# Altium footprint library FUSE_SMD.PcbLib: 6 footprints
Each footprint in its own frame and in the unit in brackets; x right, y up, seen from the top. Pads: shape width x height; smd on the part's side, far side on the other; paste and mask are expansions set on the pad; w line width, h text height; cw(c..) or ccw(c..) is an arc to the next point about the centre after c.
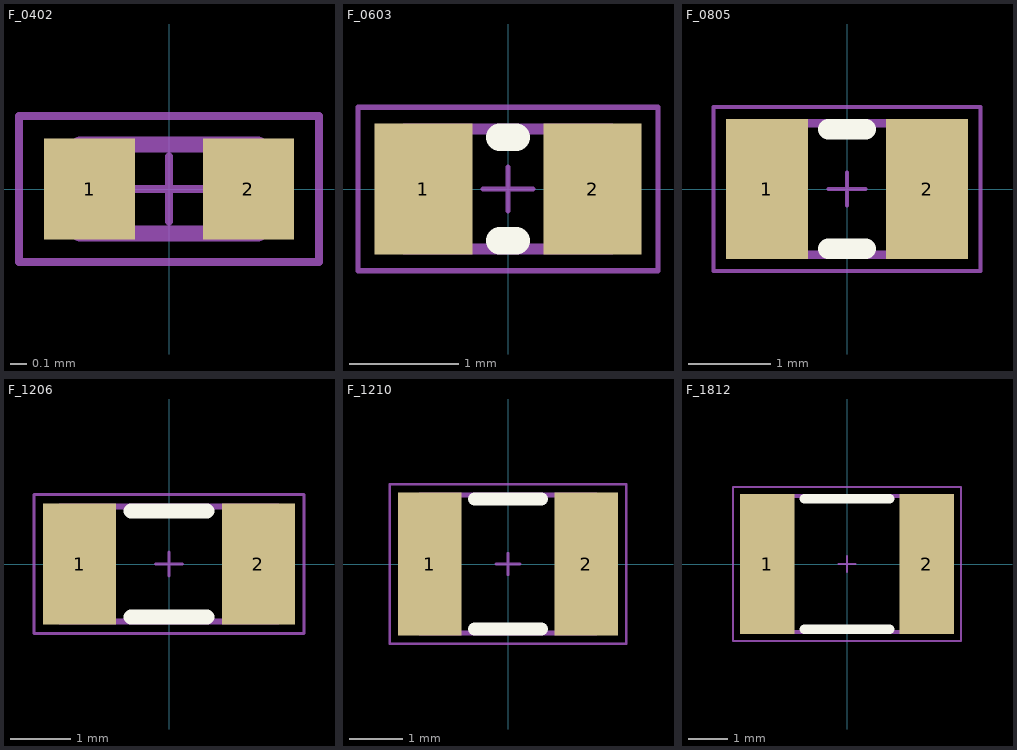
[diagram p0: the footprints below, top view; thin cyan lines are the x and y axes]

## F_0402 [mm] "Fuse SMD 0402."
height 0.9
pads (2):
  rect 0.56x0.62 smd: 1(-0.49,0) 2(0.49,0)
Mechanical 13:
  lines w0.1: -0.55,-0.275 0.55,-0.275 0.55,0.275 -0.55,0.275 -0.55,-0.275
Mechanical 15:
  lines w0.05: -0.225,0 0.225,0 ; 0,-0.2 0,0.2 ; -0.925,-0.45 -0.925,0.45 0.925,0.45 0.925,-0.45 -0.925,-0.45
3D body "F0402.STEP": height 0.33, standoff 0, extent -0.5,-0.25 0.5,0.25

## F_0603 [mm] "Fuse SMD 0603."
height 0.9
pads (2):
  rect 0.9x1.2 smd: 1(-0.775,0) 2(0.775,0)
Top Overlay:
  lines w0.25: -0.075,-0.475 0.075,-0.475 ; -0.075,0.475 0.075,0.475
Mechanical 13:
  lines w0.1: -0.95,-0.55 -0.95,0.55 0.95,0.55 0.95,-0.55 -0.95,-0.55
Mechanical 15:
  lines w0.05: -0.225,0 0.225,0 ; 0,-0.2 0,0.2 ; -1.375,-0.75 -1.375,0.75 1.375,0.75 1.375,-0.75 -1.375,-0.75
3D body "F0603.step": height 0.45, standoff 0, extent -0.9,-0.52 0.9,0.52

## F_0805 [mm] "Fuse SMD 0805."
height 0.9
pads (2):
  rect 1x1.7 smd: 1(-0.975,0) 2(0.975,0)
Top Overlay:
  lines w0.25: -0.225,-0.725 0.225,-0.725 ; -0.225,0.725 0.225,0.725
Mechanical 13:
  lines w0.1: -1.15,-0.8 1.15,-0.8 1.15,0.8 -1.15,0.8 -1.15,-0.8
Mechanical 15:
  lines w0.05: -0.225,0 0.225,0 ; 0,-0.2 0,0.2 ; -1.625,-1 1.625,-1 1.625,1 -1.625,1 -1.625,-1
3D body "F0805.step": height 0.5, standoff 0, extent -1.1,-0.77 1.1,0.77

## F_1206 [mm] "Fuse SMD 1206."
height 0.9
pads (2):
  rect 1.2x2 smd: 1(-1.475,0) 2(1.475,0)
Top Overlay:
  lines w0.25: -0.625,-0.875 0.625,-0.875 ; -0.625,0.875 0.625,0.875
Mechanical 13:
  lines w0.1: -1.8,-0.95 -1.8,0.95 1.8,0.95 1.8,-0.95 -1.8,-0.95
Mechanical 15:
  lines w0.05: -0.225,0 0.225,0 ; 0,-0.2 0,0.2 ; -2.225,-1.15 2.225,-1.15 2.225,1.15 -2.225,1.15 -2.225,-1.15
3D body "F1206.step": height 0.5, standoff 0, extent -1.75,-0.92 1.75,0.92

## F_1210 [mm] "Fuse SMD 1210."
height 0.9
pads (2):
  rect 1.2x2.7 smd: 1(-1.475,0) 2(1.475,0)
Top Overlay:
  lines w0.25: -0.625,-1.225 0.625,-1.225 ; -0.625,1.225 0.625,1.225
Mechanical 13:
  lines w0.1: -1.65,-1.3 -1.65,1.3 1.65,1.3 1.65,-1.3 -1.65,-1.3
Mechanical 15:
  lines w0.05: -0.225,0 0.225,0 ; 0,-0.2 0,0.2 ; -2.225,-1.5 2.225,-1.5 2.225,1.5 -2.225,1.5 -2.225,-1.5
3D body "F1210.STEP": height 0.67, standoff 0, extent -1.607,-1.288 1.607,1.288

## F_1812 [mm] "Fuse SMD 1812."
height 0.9
pads (2):
  rect 1.4x3.6 smd: 1(-2.05,0) 2(2.05,0)
Top Overlay:
  lines w0.25: -1.1,-1.675 1.1,-1.675 ; -1.1,1.675 1.1,1.675
Mechanical 13:
  lines w0.1: -2.4,-1.75 -2.4,1.75 2.4,1.75 2.4,-1.75 -2.4,-1.75
Mechanical 15:
  lines w0.05: -0.225,0 0.225,0 ; 0,-0.2 0,0.2 ; -2.925,-1.975 2.925,-1.975 2.925,1.975 -2.925,1.975 -2.925,-1.975
3D body "F1812.step": height 1.11, standoff 0, extent -2.35,-1.7 2.35,1.7